# EAGLE library part LEXXCD (library toslink)
LEXXCD Voltage regulator
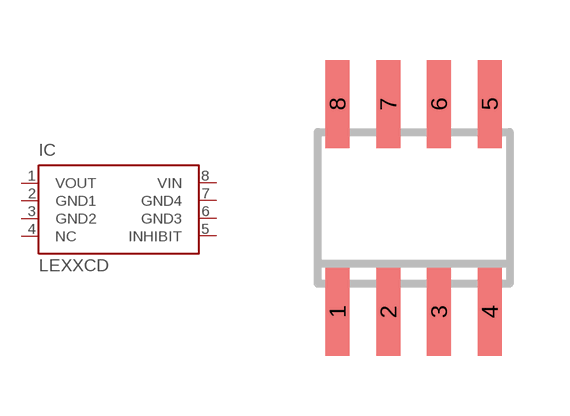
[diagram p19: symbol with the pads of SO-08; footprint SO-08]

Designator prefix IC

## LEXXCDSO-08  [SO-08]
1  VOUT  pwr
2  GND1  pwr
3  GND2  pwr
4  NC  nc
5  INHIBIT  in
6  GND3  pwr
7  GND4  pwr
8  VIN  pwr

## Footprint SO-08 (pad centres in mm)
D (R-PDSO-G8) Plastic Small Outline Package Source: http://focus.ti.com/lit/ds/symlink/sn65als176.pdf
smd 0.6 x 2.2: 1 -1.905,-2.6; 2 -0.635,-2.6; 3 0.635,-2.6; 4 1.905,-2.6; 5 1.905,2.6; 6 0.635,2.6; 7 -0.635,2.6; 8 -1.905,2.6